# EAGLE library part LC4256ZE_XXTN144 (library lattice_ispmach4000ze)
ispMACH 4256ZE TQFP144 Lattice Semiconductor Corporation - ispMACH 4000ZE Ultra Low Power, Low Cost CPLD Family Generated using Lattice BSDL models: http://www.latticesemi.com/dynamic/index.cfm?fuseaction=view_documents&document_type=36&sloc=01-01-02-01&source=sidebar
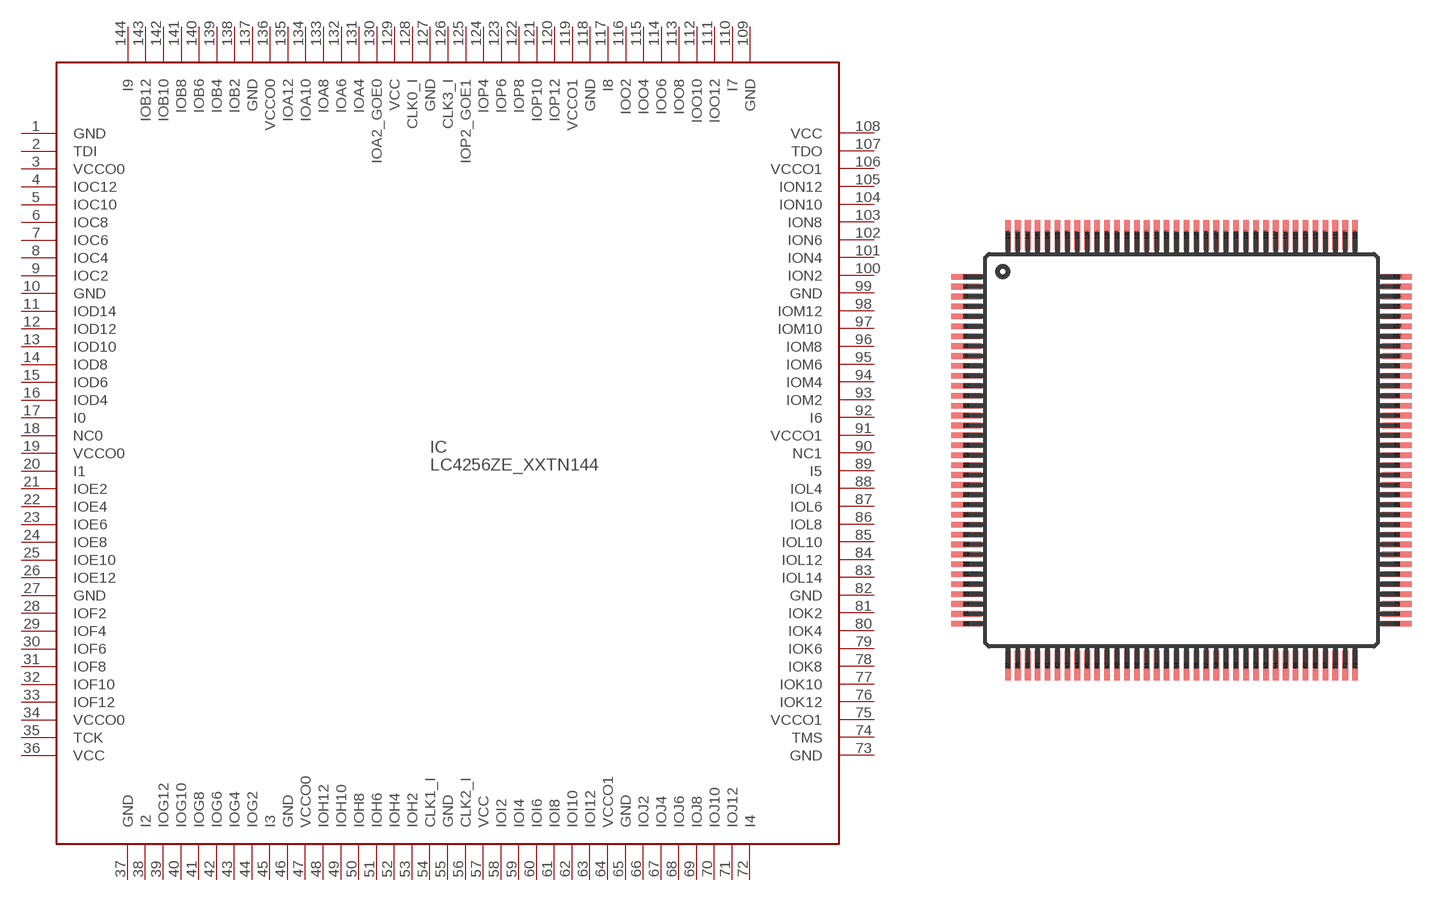
[diagram p6: symbol with the pads of TQFP144; footprint TQFP144]

Designator prefix IC

## LC4256ZE_XXTN144  [TQFP144]
1  GND  pwr
2  TDI  in
3  VCCO0  pwr
4  IOC12
5  IOC10
6  IOC8
7  IOC6
8  IOC4
9  IOC2
10  GND  pwr
11  IOD14
12  IOD12
13  IOD10
14  IOD8
15  IOD6
16  IOD4
17  I0
18  NC0  pas
19  VCCO0  pwr
20  I1
21  IOE2
22  IOE4
23  IOE6
24  IOE8
25  IOE10
26  IOE12
27  GND  pwr
28  IOF2
29  IOF4
30  IOF6
31  IOF8
32  IOF10
33  IOF12
34  VCCO0  pwr
35  TCK  in
36  VCC  pwr
37  GND  pwr
38  I2
39  IOG12
40  IOG10
41  IOG8
42  IOG6
43  IOG4
44  IOG2
45  I3
46  GND  pwr
47  VCCO0  pwr
48  IOH12
49  IOH10
50  IOH8
51  IOH6
52  IOH4
53  IOH2
54  CLK1_I  in
55  GND  pwr
56  CLK2_I  in
57  VCC  pwr
58  IOI2
59  IOI4
60  IOI6
61  IOI8
62  IOI10
63  IOI12
64  VCCO1  pwr
65  GND  pwr
66  IOJ2
67  IOJ4
68  IOJ6
69  IOJ8
70  IOJ10
71  IOJ12
72  I4
73  GND  pwr
74  TMS  in
75  VCCO1  pwr
76  IOK12
77  IOK10
78  IOK8
79  IOK6
80  IOK4
81  IOK2
82  GND  pwr
83  IOL14
84  IOL12
85  IOL10
86  IOL8
87  IOL6
88  IOL4
89  I5
90  NC1  pas
91  VCCO1  pwr
92  I6
93  IOM2
94  IOM4
95  IOM6
96  IOM8
97  IOM10
98  IOM12
99  GND  pwr
100  ION2
101  ION4
102  ION6
103  ION8
104  ION10
105  ION12
106  VCCO1  pwr
107  TDO  out
108  VCC  pwr
109  GND  pwr
110  I7
111  IOO12
112  IOO10
113  IOO8
114  IOO6
115  IOO4
116  IOO2
117  I8
118  GND  pwr
119  VCCO1  pwr
120  IOP12
121  IOP10
122  IOP8
123  IOP6
124  IOP4
125  IOP2_GOE1
126  CLK3_I  in
127  GND  pwr
128  CLK0_I  in
129  VCC  pwr
130  IOA2_GOE0
131  IOA4
132  IOA6
133  IOA8
134  IOA10
135  IOA12
136  VCCO0  pwr
137  GND  pwr
138  IOB2
139  IOB4
140  IOB6
141  IOB8
142  IOB10
143  IOB12
144  I9

## Footprint TQFP144 (pad centres in mm)
TQFP - 144 http://www.latticesemi.com/lit/docs/package/pkg.pdf
smd 1.5 x 0.285: 1 -10.85,8.75; 2 -10.85,8.25; 3 -10.85,7.75; 4 -10.85,7.25; 5 -10.85,6.75; 6 -10.85,6.25; 7 -10.85,5.75; 8 -10.85,5.25; 9 -10.85,4.75; 10 -10.85,4.25; 11 -10.85,3.75; 12 -10.85,3.25; 13 -10.85,2.75; 14 -10.85,2.25; 15 -10.85,1.75; 16 -10.85,1.25; 17 -10.85,0.75; 18 -10.85,0.25; 19 -10.85,-0.25; 20 -10.85,-0.75; 21 -10.85,-1.25; 22 -10.85,-1.75; 23 -10.85,-2.25; 24 -10.85,-2.75; 25 -10.85,-3.25; 26 -10.85,-3.75; 27 -10.85,-4.25; 28 -10.85,-4.75; 29 -10.85,-5.25; 30 -10.85,-5.75; 31 -10.85,-6.25; 32 -10.85,-6.75; 33 -10.85,-7.25; 34 -10.85,-7.75; 35 -10.85,-8.25; 36 -10.85,-8.75; 73 10.85,-8.75; 74 10.85,-8.25; 75 10.85,-7.75; 76 10.85,-7.25; 77 10.85,-6.75; 78 10.85,-6.25; 79 10.85,-5.75; 80 10.85,-5.25; 81 10.85,-4.75; 82 10.85,-4.25; 83 10.85,-3.75; 84 10.85,-3.25; 85 10.85,-2.75; 86 10.85,-2.25; 87 10.85,-1.75; 88 10.85,-1.25; 89 10.85,-0.75; 90 10.85,-0.25; 91 10.85,0.25; 92 10.85,0.75; 93 10.85,1.25; 94 10.85,1.75; 95 10.85,2.25; 96 10.85,2.75; 97 10.85,3.25; 98 10.85,3.75; 99 10.85,4.25; 100 10.85,4.75; 101 10.85,5.25; 102 10.85,5.75; 103 10.85,6.25; 104 10.85,6.75; 105 10.85,7.25; 106 10.85,7.75; 107 10.85,8.25; 108 10.85,8.75
smd 0.285 x 1.5: 37 -8.75,-10.85; 38 -8.25,-10.85; 39 -7.75,-10.85; 40 -7.25,-10.85; 41 -6.75,-10.85; 42 -6.25,-10.85; 43 -5.75,-10.85; 44 -5.25,-10.85; 45 -4.75,-10.85; 46 -4.25,-10.85; 47 -3.75,-10.85; 48 -3.25,-10.85; 49 -2.75,-10.85; 50 -2.25,-10.85; 51 -1.75,-10.85; 52 -1.25,-10.85; 53 -0.75,-10.85; 54 -0.25,-10.85; 55 0.25,-10.85; 56 0.75,-10.85; 57 1.25,-10.85; 58 1.75,-10.85; 59 2.25,-10.85; 60 2.75,-10.85; 61 3.25,-10.85; 62 3.75,-10.85; 63 4.25,-10.85; 64 4.75,-10.85; 65 5.25,-10.85; 66 5.75,-10.85; 67 6.25,-10.85; 68 6.75,-10.85; 69 7.25,-10.85; 70 7.75,-10.85; 71 8.25,-10.85; 72 8.75,-10.85; 109 8.75,10.85; 110 8.25,10.85; 111 7.75,10.85; 112 7.25,10.85; 113 6.75,10.85; 114 6.25,10.85; 115 5.75,10.85; 116 5.25,10.85; 117 4.75,10.85; 118 4.25,10.85; 119 3.75,10.85; 120 3.25,10.85; 121 2.75,10.85; 122 2.25,10.85; 123 1.75,10.85; 124 1.25,10.85; 125 0.75,10.85; 126 0.25,10.85; 127 -0.25,10.85; 128 -0.75,10.85; 129 -1.25,10.85; 130 -1.75,10.85; 131 -2.25,10.85; 132 -2.75,10.85; 133 -3.25,10.85; 134 -3.75,10.85; 135 -4.25,10.85; 136 -4.75,10.85; 137 -5.25,10.85; 138 -5.75,10.85; 139 -6.25,10.85; 140 -6.75,10.85; 141 -7.25,10.85; 142 -7.75,10.85; 143 -8.25,10.85; 144 -8.75,10.85